# Altium footprint library SE_13.PcbLib: 25 footprints (part 1 of 2)
Each footprint in its own frame and in the unit in brackets; x right, y up, seen from the top. Pads: shape width x height; smd on the part's side, far side on the other; paste and mask are expansions set on the pad; w line width, h text height; cw(c..) or ccw(c..) is an arc to the next point about the centre after c.
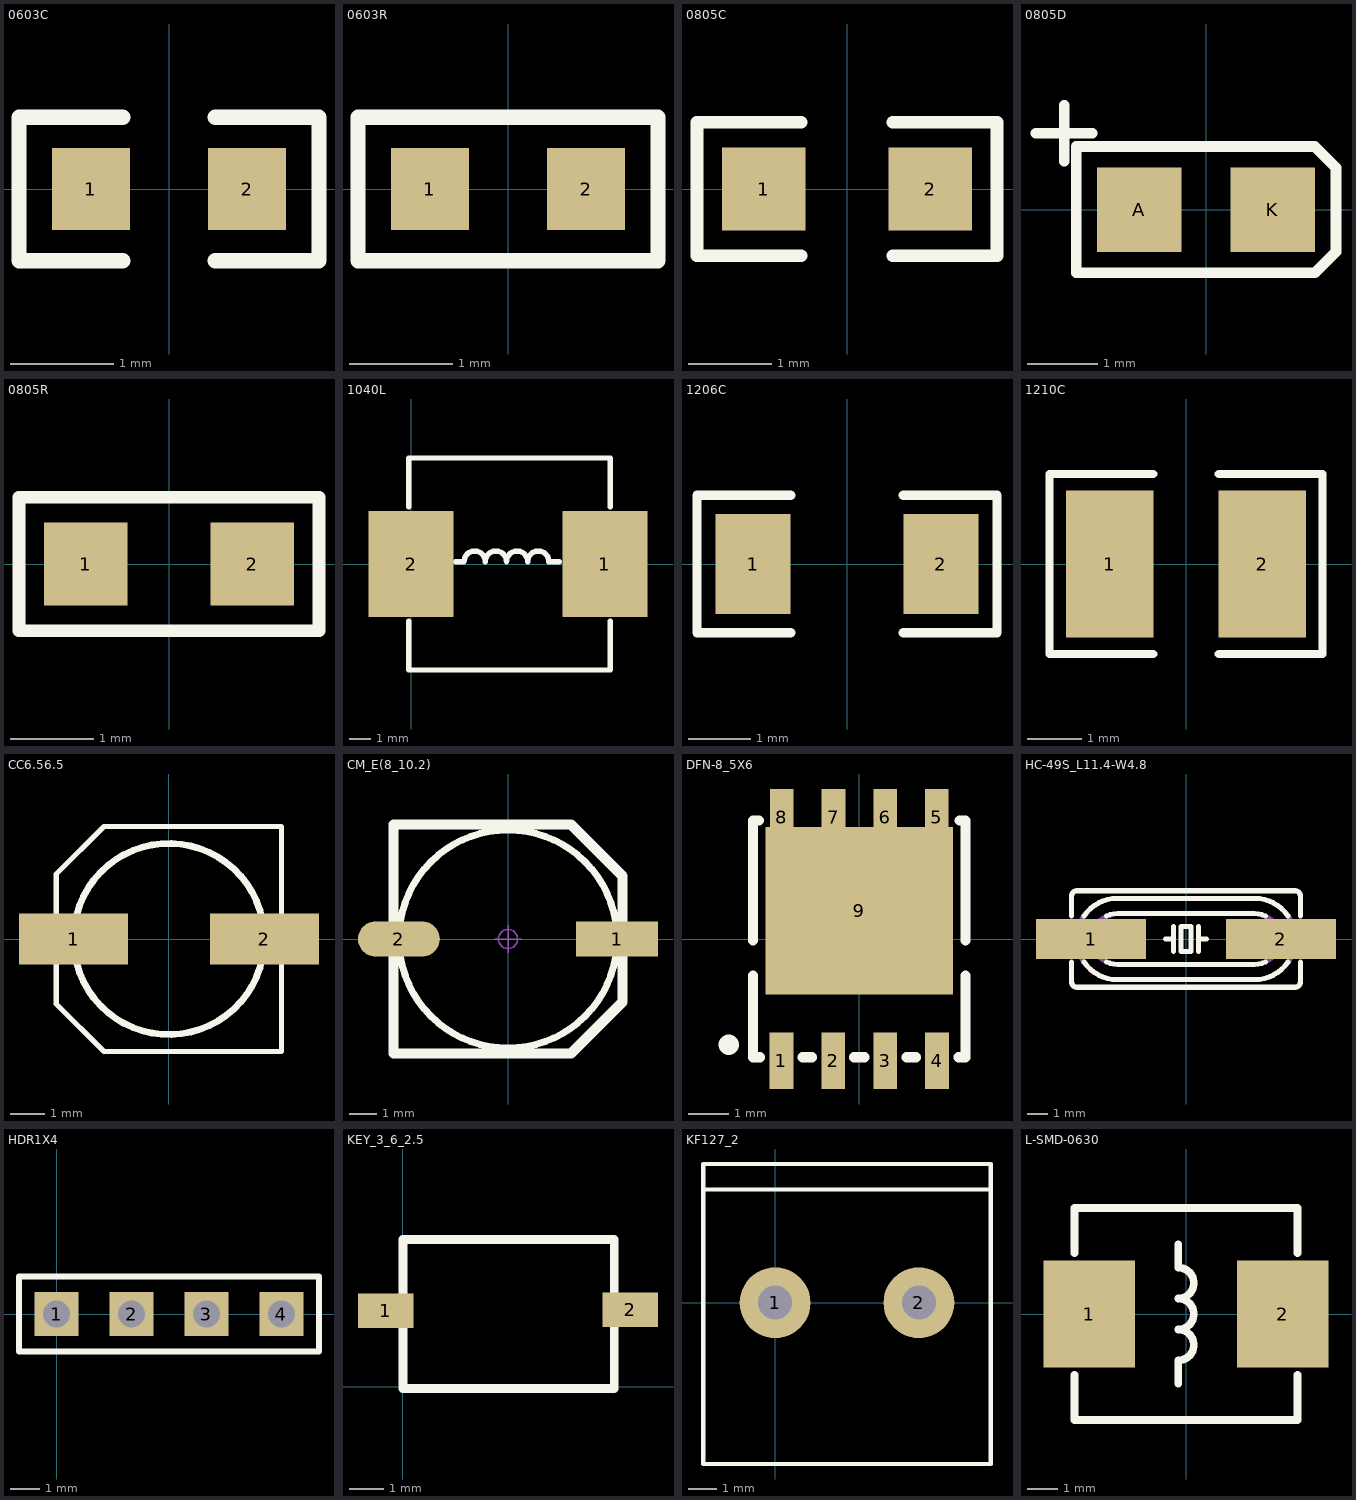
[diagram p0: the footprints below, top view; thin cyan lines are the x and y axes]

## 0603C [mil]
pads (2):
  rect 29.92x31.5 smd: 1(-29.92,0) 2(29.92,0)
Top Overlay:
  lines w5.91: -17.72,-27.56 -57.48,-27.56 -57.48,27.56 -17.72,27.56 ; 17.72,-27.56 57.48,-27.56 57.48,27.56 17.72,27.56

## 0603R [mil]
pads (2):
  rect 29.92x31.5 smd: 1(-29.92,0) 2(29.92,0)
Top Overlay:
  lines w5.91: -57.48,-27.56 -57.48,27.56 57.48,27.56 57.48,-27.56 -57.48,-27.56

## 0805C [mm]
pads (2):
  rect 1x1 smd: 1(-1,0) 2(1,0)
Top Overlay:
  lines w0.15: -0.55,-0.8 -1.8,-0.8 -1.8,0.8 -0.55,0.8 ; 0.55,-0.8 1.8,-0.8 1.8,0.8 0.55,0.8

## 0805D [mm]
pads (2):
  rect 1.2x1.2 smd: A(-0.95,0) K(0.95,0)
Top Overlay:
  lines w0.15: -2.42,1.09 -1.62,1.09 ; -2.02,0.69 -2.02,1.49 ; -1.85,-0.9 1.55,-0.9 1.85,-0.6 1.85,0.6 1.55,0.9 -1.85,0.9 -1.85,-0.9

## 0805R [mm]
pads (2):
  rect 1x1 smd: 1(-1,0) 2(1,0)
Top Overlay:
  lines w0.15: -1.8,-0.8 1.8,-0.8 1.8,0.8 -1.8,0.8 -1.8,-0.8

## 1040L [mm]
pads (2):
  rect 4x5 smd: 1(9.144,0) 2(0,0)
Top Overlay:
  lines w0.254: -0.1,-2.7 -0.1,-5 9.4,-5 9.4,-2.7 ; -0.1,2.7 -0.1,5 9.4,5 9.4,2.7 ; 2.1,0.1 2.5,0.1 cw(c3,0.11) 3.5,0.1 cw(c4,0.11) 4.5,0.1 cw(c5,0.11) 5.5,0.1 cw(c6,0.11) 6.5,0.1 7,0.1

## 1206C [mm]
pads (2):
  rect 1.2x1.6 smd: 1(-1.5,0) 2(1.5,0)
Top Overlay:
  lines w0.15: -0.9,-1.1 -2.4,-1.1 -2.4,1.1 -0.9,1.1 ; 0.9,-1.1 2.4,-1.1 2.4,1.1 0.9,1.1

## 1210C [mm]
height 1.6
pads (2):
  rect 1.6x2.7 smd: 1(-1.4,0) 2(1.4,0)
Top Overlay:
  lines w0.15: -0.6,-1.65 -2.5,-1.65 -2.5,1.65 -0.6,1.65 ; 0.6,-1.65 2.5,-1.65 2.5,1.65 0.6,1.65

## CC6.56.5 [mil]
pads (2):
  rect 125.98x59.06 smd: 1(-110,0) 2(110.24,0)
Top Overlay:
  circle w7.87: c0,0 r110.24
  lines w6: -130,-75 -75,-130 130,-130 130,130 -75,130 -130,75 -130,-75

## CM_E(8_10.2) [mm]
pads (2):
  rect 3x1.3 smd: 1(4,0)
  oval 3x1.3 smd: 2(-4,0)
Top Overlay:
  circle w0.254: c0,0 r4
  lines w0.381: -4.2,-4.2 2.3,-4.2 4.2,-2.3 4.2,2.3 2.3,4.2 -4.2,4.2 -4.2,-4.2
Mechanical 16:
  circle w0.05: c0,0 r0.35
  lines w0.05: -0.5,0 0.5,0 ; 0,-0.5 0,0.5

## DFN-8_5X6 [mm]
height 1.6
pads (9):
  rect 0.58x1.38 smd: 1(-1.905,-2.985) 2(-0.635,-2.985) 3(0.635,-2.985) 4(1.905,-2.985) 5(1.9,2.985) 6(0.64,2.985) 7(-0.63,2.985) 8(-1.9,2.985)
  rect 4.6x4.1 smd: 9(0,0.695)
Top Overlay:
  lines w0.25: -2.6,-0.897 -2.6,-2.895 -2.429,-2.895 ; -2.6,-0.032 -2.6,2.905 -2.463,2.905 ; -1.391,-2.895 -1.159,-2.895 ; -0.121,-2.895 0.121,-2.895 ; 1.159,-2.895 1.391,-2.895 ; 2.429,-2.895 2.6,-2.895 2.6,-0.897 ; 2.6,-0.032 2.6,2.905 2.463,2.905 ; -2.463,2.905 -2.5,2.905 -2.463,2.905 ; 2.463,2.905 2.5,2.905 2.463,2.905
  lines w0.5: -3.2,-2.595 -3.2,-2.592

## HC-49S_L11.4-W4.8 [mm]
pads (2):
  rect 5.5x2 smd: 1(-4.75,0) 2(4.75,0)
Top Overlay:
  lines w0.254: -5.715,-1.143 -5.715,-2.159 ccw(c-5.461,-2.159) -5.461,-2.413 5.461,-2.413 ccw(c5.461,-2.159) 5.715,-2.159 5.715,-1.143 ; -5.715,1.143 -5.715,2.159 cw(c-5.461,2.159) -5.461,2.413 5.461,2.413 cw(c5.461,2.159) 5.715,2.159 5.715,1.143 ; -5.11,-1.142 ccw(c-3.429,0) -3.429,-2.032 3.429,-2.032 ccw(c3.429,0) 5.11,-1.142 ; -5.109,1.142 cw(c-3.429,0) -3.429,2.032 3.429,2.032 cw(c3.429,0) 5.11,1.142 ; -3.982,-1.143 ccw(c-3.429,0) -3.429,-1.27 3.429,-1.27 ccw(c3.429,0) 3.982,-1.143 ; -3.982,1.143 cw(c-3.429,0) -3.429,1.27 3.429,1.27 cw(c3.429,0) 3.982,1.143 ; -1.016,0 -0.635,0 ; -0.635,-0.635 -0.635,0 ; -0.635,0.635 -0.635,0 ; 0.635,-0.635 0.635,0 ; 0.635,0.635 0.635,0 ; 1.016,0 0.635,0 ; -0.254,-0.635 -0.254,0.635 0.254,0.635 0.254,-0.635 -0.254,-0.635
Mechanical 16:
  lines w0.254: -6.477,0.381 -6.477,-0.381 -5.715,-0.381 ; -5.11,1.142 ccw(c-3.429,0) -5.108,-1.145 ; -3.984,-1.142 cw(c-3.429,0) -3.982,1.143 ; 3.982,-1.143 ccw(c3.429,0) 3.984,1.142 ; 5.108,1.145 cw(c3.429,0) 5.11,-1.142

## HDR1X4 [mm]
height 1.6
pads (4):
  rect 1.5x1.5 hole 0.9: 1(0,0) 2(2.54,0) 3(5.08,0) 4(7.62,0)
Top Overlay:
  lines w0.2: -1.27,-1.27 -1.27,1.27 8.89,1.27 8.89,-1.27 -1.27,-1.27

## KEY_3_6_2.5 [mm]
pads (2):
  rect 1.6x1 smd: 1(-0.5,2.2) 2(6.578,2.232)
Top Overlay:
  lines w0.254: 0,-0.054 6.112,-0.054 6.112,4.264 0,4.264 0,-0.054

## KF127_2 [mm]
pads (2):
  round 2.5 hole 1.2: 1(0,0) 2(5.08,0)
Top Overlay:
  lines w0.15: -2.54,4.002 7.62,4.002 ; -2.54,-5.7 7.62,-5.7 7.62,4.9 -2.54,4.9 -2.54,-5.7

## L-SMD-0630 [mm]
pads (2):
  rect 3x3.5 smd: 1(-3.175,0) 2(3.175,0)
Top Overlay:
  lines w0.254: -3.658,-2.007 -3.658,-3.48 3.658,-3.48 3.658,-2.007 ; -3.658,2.007 -3.658,3.48 3.658,3.48 3.658,2.007 ; -0.254,-2.286 -0.254,-1.524 ccw(c-0.254,-1.016) -0.254,-0.508 ccw(c-0.254,0) -0.254,0.508 ccw(c-0.254,1.016) -0.254,1.524 -0.254,2.286